# Altium schematic symbol library LM5020SDX-2_NOPB.SchLib: 1 symbol
Pins are listed as number, name and electrical type; pins without a type are passive.

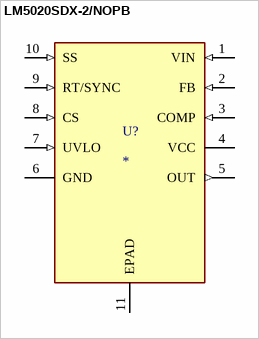
[diagram p0: symbol LM5020SDX-2/NOPB]

## LM5020SDX-2/NOPB
designator U?
13-100V Wide Vin, Current Mode PWM Boost, Flyback, Sepic Controller; MF: Texas Instruments; MP: LM5020SDX-2/NOPB; SnapEDA_Link: https://www.snapeda.com/parts/LM5020SDX-2/NOPB/Texas+Instruments/view-part/?ref=snap; Price: None; Check_prices: https://www.snapeda.com/parts/LM5020SDX-2/NOPB/Texas+Instruments/view-part/?ref=eda; Value: *; Package: WSON-10 Texas Instruments; Availability: In Stock; Purchase-URL: https://pricing.snapeda.com/search/part/LM5020SDX-2/NOPB/?ref=eda
footprint DFN400X400X80-11N
pins: 1 VIN (in), 2 FB (in), 3 COMP (in), 4 VCC (power), 5 OUT (out), 6 GND, 7 UVLO (in), 8 CS (in), 9 RT/SYNC (in), 10 SS (in), 11 EPAD